# Altium footprint library DWM1000_0.PcbLib: 1 footprints
Each footprint in its own frame and in the unit in brackets; x right, y up, seen from the top. Pads: shape width x height; smd on the part's side, far side on the other; paste and mask are expansions set on the pad; w line width, h text height; cw(c..) or ccw(c..) is an arc to the next point about the centre after c.
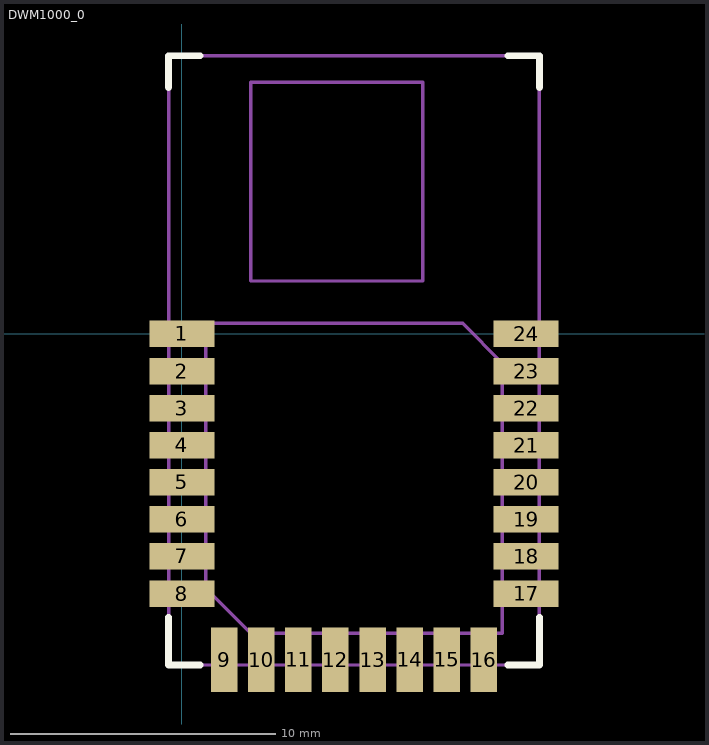
[diagram p0: the footprint, top view; thin cyan lines are the x and y axes]

## DWM1000_0 [mm]
pads (24):
  rect 2.45x1 smd: 1(0,0) 2(0,-1.4) 3(0,-2.8) 4(0,-4.2) 5(0,-5.6) 6(0,-7) 7(0,-8.4) 8(0,-9.8) 17(13,-9.8) 18(13,-8.4) 19(13,-7) 20(13,-5.6) 21(13,-4.2) 22(13,-2.8) 23(13,-1.4) 24(13,0)
  rect 1x2.45 smd: 9(1.6,-12.3) 10(3,-12.3) 11(4.4,-12.3) 12(5.8,-12.3) 13(7.2,-12.3) 14(8.6,-12.3) 15(10,-12.3) 16(11.4,-12.3)
Top Overlay:
  lines w0.254: -0.5,-10.7 -0.5,-12.5 0.7,-12.5 ; -0.5,9.3 -0.5,10.5 0.7,10.5 ; 12.3,-12.5 13.5,-12.5 13.5,-10.7 ; 12.3,10.5 13.5,10.5 13.5,9.3
Mechanical 13:
  lines w0.127: -0.5,-12.5 13.5,-12.5 13.5,10.5 -0.5,10.5 -0.5,-12.5 ; 0.9,-9.6 0.9,0.4 10.6,0.4 12.1,-1.1 12.1,-11.3 2.6,-11.3 0.9,-9.6 ; 2.6,2 9.1,2 9.1,9.5 2.6,9.5 2.6,2
3D body: height 2, standoff 0, extent 2.6,2 9.1,9.5
3D body: height 2.95, standoff 0, extent 0.9,-11.3 12.1,0.4
3D body: height 1, standoff 0, extent -0.5,-12.5 13.5,10.5